# Altium integrated library TPS63051RMWR.IntLib: 1 symbol
Pins are listed as number, name and electrical type; pins without a type are passive.

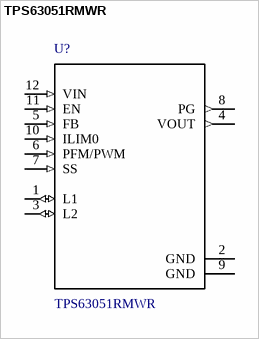
[diagram p0: symbol TPS63051RMWR]

## TPS63051RMWR
designator U?
Tiny Single Inductor Buck Boost Converter 12-VQFN -40 to 85; MF: Texas Instruments; MP: TPS63051RMWR; SnapEDA_Link: https://www.snapeda.com/parts/TPS63051RMWR/Texas%20Instruments/view-part/?ref=snap; Package: VQFN-12 Texas Instruments; Availability: Unavailable; Price: None; Value: *
footprint QFN50P250X250X100-12N
pins: 1 L1 (io), 2 GND (power), 3 L2 (io), 4 VOUT (out), 5 FB (in), 6 PFM/PWM (in), 7 SS (in), 8 PG (out), 9 GND (power), 10 ILIM0 (in), 11 EN (in), 12 VIN (in)